# Altium schematic symbol library reg_switching_FlyBack_noOpto.SchLib: 4 symbols
Pins are listed as number, name and electrical type; pins without a type are passive.

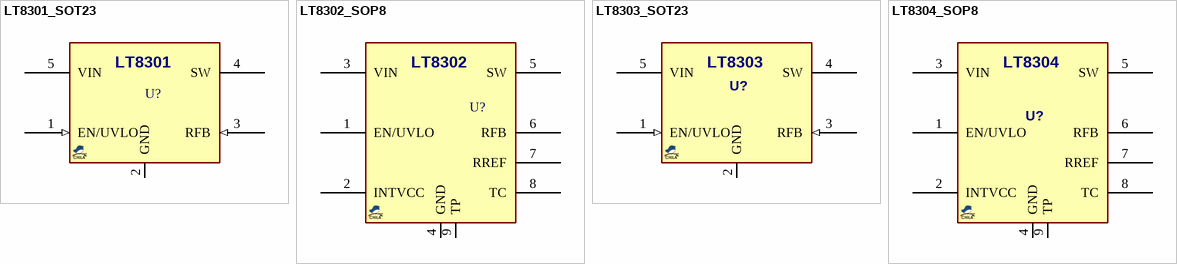
[diagram p0: symbols LT8301_SOT23 to LT8304_SOP8]

## LT8301_SOT23
designator U?, comment LT8301  (value not drawn)
REG, Switching, FlyBack, No-Opto, 2.7~42Vin, 1.2A; MANF: LT/AnalogDevice; MANF_P#: LT8301ES5#TRMPBF; PARAM2: 2.7~42Vin, 170ns Ton, -40~125oC; PARAM: 10 kHz, 1.2A, 0.4 Ohm RDSon; ASSEMBLY: ASSEMBLY; PRICE: 7$!!; VALUE: LT8301
footprint SOT23_5 (SOT-23-5, SOT25, SOT-25, DBV(R-PDSO-G5), SOT753, TSOT23-5, SC-74A, SOT23-5, S5-T (LINEAR), MO-178AA, MO-193AB(JEDEC), MF05A (NS), TSOP-5(ON), UJ-5 (AD), 1.5x3mm, Pitch 0.65mm)
pins: 1 EN/UVLO (in) "Enable/Undervoltage Lockout.", 2 GND (power) "Ground. Tie this pin directly to local ground  plane.", 3 RFB (in) "Input Pin for External Feedback Resistor. Connect  a resistor from this pin to the transformer primary  SW pin. The ratio of the RFB resistor to an internal 10k  resistor, times a trimmed 1.0V reference voltage, determines  the output voltage (plus the effect of any non-unity  transformer turns ratio). Minimize trace area at this pin.", 4 SW (power) "Drain of the 65V Internal DMOS Power Switch.  Minimize trace area at this pin to reduce EMI and voltage  spikes.", 5 VIN (power) "Input Supply. The VIN pin supplies current  to internal circuitry and serves as a reference voltage for  the feedback circuitry connected to the RFB pin. Locally  bypass this pin to ground with a capacitor."

## LT8302_SOP8
designator U?, comment LT8302  (value not drawn)
REG, Switching, FlyBack, No-Opto, 2.8~42Vin, 3.6A; MANF: LT/AnalogDevice; MANF_P#: LT8302ES8E#PBF; PARAM2: 2.8~42Vin, 160ns Ton, -40~125oC; PARAM: 12 kHz, 3.6A, 0.08 Ohm RDSon; ASSEMBLY: ASSEMBLY; PRICE: 7$; VALUE: LT8302
footprint SO_8T (SOP-8, 5x3.9mm body 0.5mm pitch, DDA, SO PowerPAD)
pins: 1 EN/UVLO, 2 INTVCC, 3 VIN, 4 GND, 5 SW, 6 RFB, 7 RREF, 8 TC, 9 TP

## LT8303_SOT23
designator U?, comment LT8303  (value not drawn)
REG, Switching, FlyBack, No-Opto, 5.5~100Vin, 0.45A; MANF: LT/AnalogDevice; MANF_P#: LT8303IS5#PBF, LT8303ES5#PBF; PARAM2: 5.5~100Vin, 160ns Ton, -40~125oC; PARAM: 11 kHz, 0.45A, 0.5 Ohm RDSon; ASSEMBLY: ASSEMBLY; PRICE: 7$; VALUE: LT8303
footprint SOT23_5 (SOT-23-5, SOT25, SOT-25, DBV(R-PDSO-G5), SOT753, TSOT23-5, SC-74A, SOT23-5, S5-T (LINEAR), MO-178AA, MO-193AB(JEDEC), MF05A (NS), TSOP-5(ON), UJ-5 (AD), 1.5x3mm, Pitch 0.65mm)
pins: 1 EN/UVLO (in) "Enable/Undervoltage Lockout.", 2 GND (power) "Ground. Tie this pin directly to local ground  plane.", 3 RFB (in) "Input Pin for External Feedback Resistor. Connect  a resistor from this pin to the transformer primary  SW pin. The ratio of the RFB resistor to an internal 10k  resistor, times a trimmed 1.0V reference voltage, determines  the output voltage (plus the effect of any non-unity  transformer turns ratio). Minimize trace area at this pin.", 4 SW (power) "Drain of the 65V Internal DMOS Power Switch.  Minimize trace area at this pin to reduce EMI and voltage  spikes.", 5 VIN (power) "Input Supply. The VIN pin supplies current  to internal circuitry and serves as a reference voltage for  the feedback circuitry connected to the RFB pin. Locally  bypass this pin to ground with a capacitor."

## LT8304_SOP8
designator U?, comment LT8304  (value not drawn)
REG, Switching, FlyBack, No-Opto, 3~100Vin, 2A; MANF: LT/AnalogDevice; MANF_P#: LT8304ES8E#PBF, LT8304IS8E#PBF; PARAM2: 3~100Vin, 160ns Ton, -40~125oC; PARAM: 11 kHz, 2A, 0.5 Ohm RDSon; ASSEMBLY: ASSEMBLY; PRICE: 7$; VALUE: LT8304
footprint SO_8T
pins: 1 EN/UVLO, 2 INTVCC, 3 VIN, 4 GND, 5 SW, 6 RFB, 7 RREF, 8 TC, 9 TP